# Altium footprint library Package_SON.PcbLib: 75 footprints (part 3 of 5)
Each footprint in its own frame and in the unit in brackets; x right, y up, seen from the top. Pads: shape width x height; smd on the part's side, far side on the other; paste and mask are expansions set on the pad; w line width, h text height; cw(c..) or ccw(c..) is an arc to the next point about the centre after c.
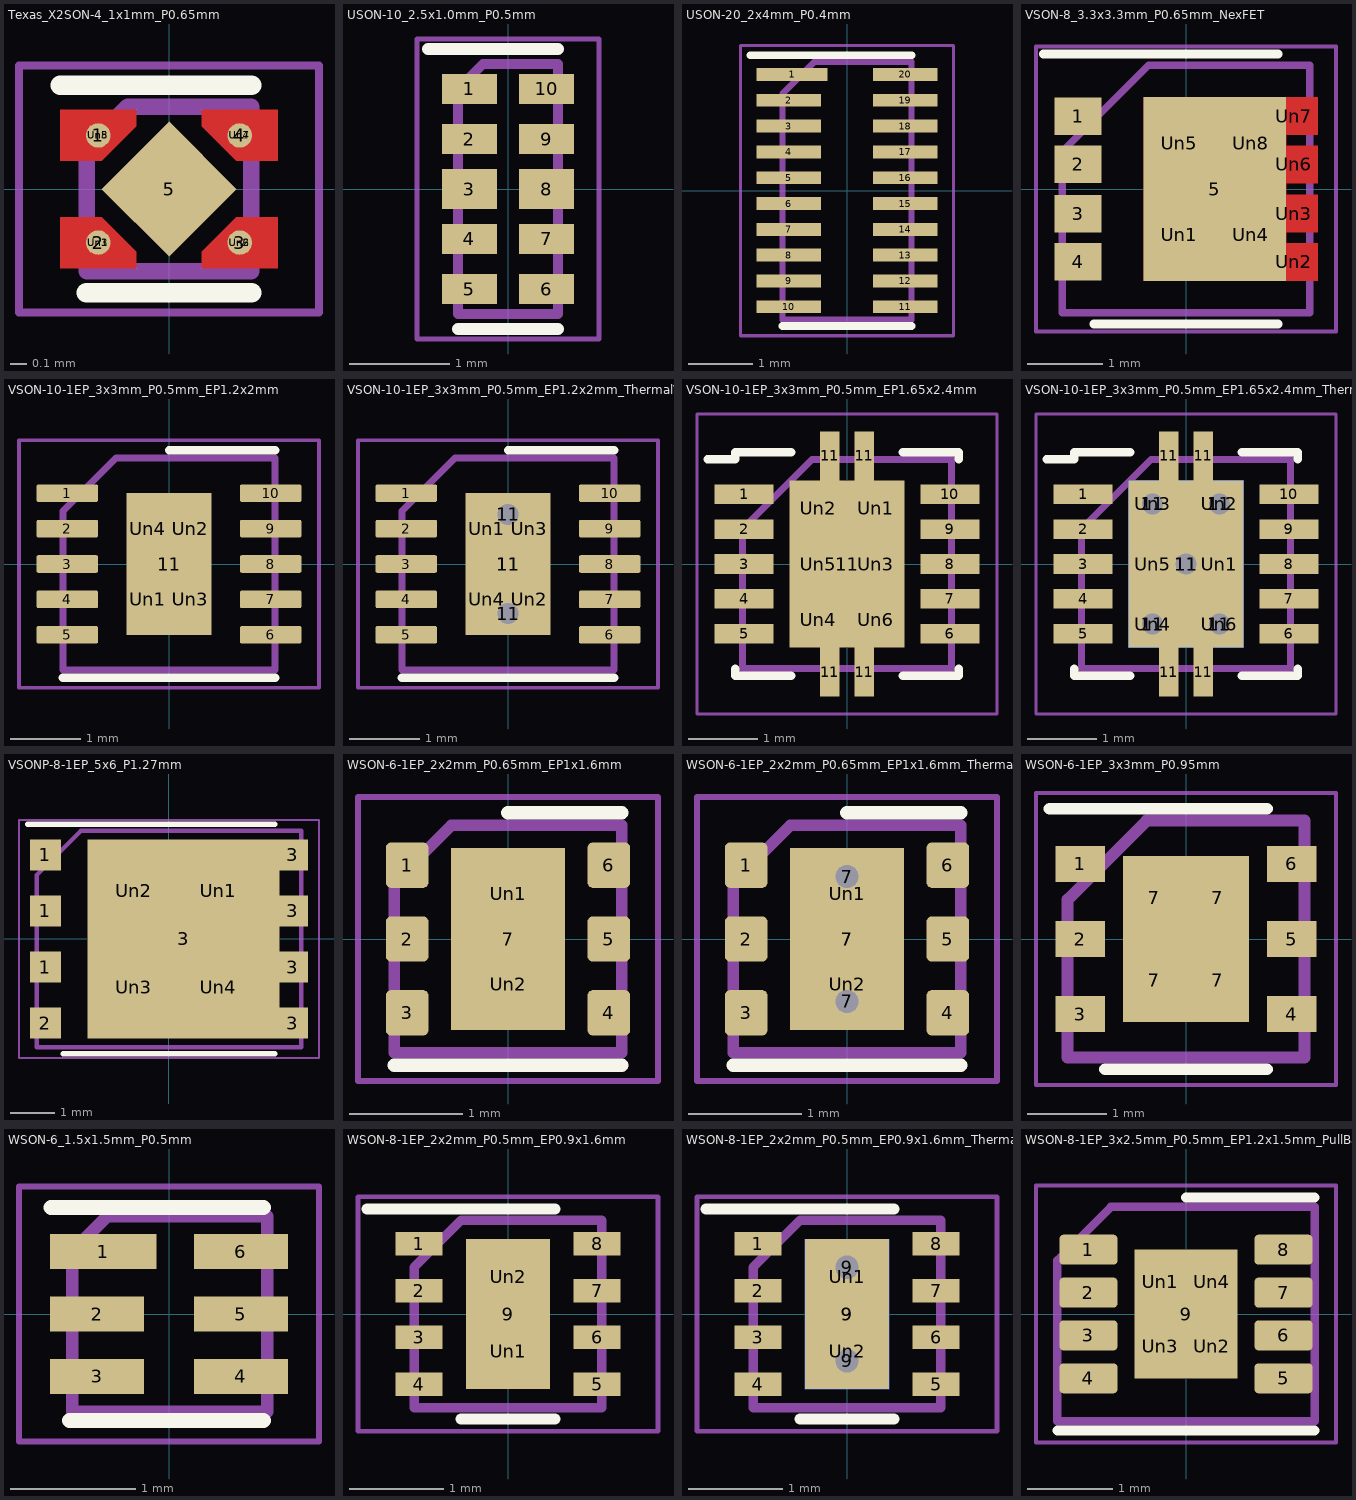
[diagram p2: the footprints below, top view; thin cyan lines are the x and y axes]

## Texas_X2SON-4_1x1mm_P0.65mm [mm]
pads (13):
  round 0.148 smd: 1(-0.43,0.325) 2(-0.43,-0.325) 3(0.43,-0.325) 4(0.43,0.325)
  rect 0.58x0.58 smd rot 45: 5(0,0)
  round 0.148 on Top Solder: Un1(-0.43,-0.325) Un2(0.43,-0.325) Un5(-0.43,0.325) Un7(0.43,0.325)
  round 0.148 on Top Paste: Un3(-0.43,-0.325) Un4(0.43,0.325) Un6(0.43,-0.325) Un8(-0.43,0.325)
F.Cu:
  region: -0.2,0.379 -0.409,0.17 -0.66,0.17 -0.66,0.48 -0.2,0.48
  region: -0.2,-0.379 -0.2,-0.48 -0.66,-0.48 -0.66,-0.17 -0.409,-0.17
  region: 0.66,-0.48 0.2,-0.48 0.2,-0.379 0.409,-0.17 0.66,-0.17
  region: 0.66,0.17 0.409,0.17 0.2,0.379 0.2,0.48 0.66,0.48
F.SilkS:
  lines w0.12: -0.66,0.63 0.5,0.63 ; -0.5,-0.63 0.5,-0.63
F.Paste:
  region: -0.25,-0.4 -0.25,-0.43 -0.65,-0.43 -0.65,-0.22 -0.43,-0.22
  region: 0.65,0.22 0.43,0.22 0.25,0.4 0.25,0.43 0.65,0.43
  region: 0.65,-0.43 0.25,-0.43 0.25,-0.4 0.43,-0.22 0.65,-0.22
  region: -0.25,0.4 -0.43,0.22 -0.65,0.22 -0.65,0.43 -0.25,0.43
F.Mask:
  region: -0.25,-0.4 -0.25,-0.43 -0.61,-0.43 -0.61,-0.22 -0.43,-0.22
  region: 0.61,-0.43 0.25,-0.43 0.25,-0.4 0.43,-0.22 0.61,-0.22
  region: -0.25,0.4 -0.43,0.22 -0.61,0.22 -0.61,0.43 -0.25,0.43
  region: 0.61,0.22 0.43,0.22 0.25,0.4 0.25,0.43 0.61,0.43
F.CrtYd:
  lines w0.05: -0.91,-0.75 0.91,-0.75 0.91,0.75 -0.91,0.75 -0.91,-0.75
F.Fab:
  lines w0.1: -0.5,-0.5 -0.5,0.25 -0.25,0.5 0.5,0.5 0.5,-0.5 -0.5,-0.5
  text "'.Designator'" at -0.819,-0.178 h0.2

## USON-10_2.5x1.0mm_P0.5mm [mm]
pads (10):
  rect 0.55x0.3 smd: 1(-0.385,1) 2(-0.385,0.5) 4(-0.385,-0.5) 5(-0.385,-1) 6(0.385,-1) 7(0.385,-0.5) 9(0.385,0.5) 10(0.385,1)
  rect 0.55x0.4 smd: 3(-0.385,0) 8(0.385,0)
F.SilkS:
  lines w0.12: -0.8,1.4 0.5,1.4 ; -0.5,-1.4 0.5,-1.4
F.CrtYd:
  lines w0.05: -0.91,-1.5 0.91,-1.5 0.91,1.5 -0.91,1.5 -0.91,-1.5
F.Fab:
  lines w0.1: -0.5,-1.25 0.5,-1.25 0.5,1.25 -0.25,1.25 -0.5,1 -0.5,-1.25
  text "'.Designator'" at 0.48,-2.243 h0.55

## USON-20_2x4mm_P0.4mm [mm]
pads (20):
  rect 1.1x0.2 smd: 1(-0.85,1.8)
  rect 1x0.2 smd: 2(-0.9,1.4) 3(-0.9,1) 4(-0.9,0.6) 5(-0.9,0.2) 6(-0.9,-0.2) 7(-0.9,-0.6) 8(-0.9,-1) 9(-0.9,-1.4) 10(-0.9,-1.8) 11(0.9,-1.8) 12(0.9,-1.4) 13(0.9,-1) 14(0.9,-0.6) 15(0.9,-0.2) 16(0.9,0.2) 17(0.9,0.6) 18(0.9,1) 19(0.9,1.4) 20(0.9,1.8)
F.SilkS:
  lines w0.12: -1.5,2.1 1,2.1 ; -1,-2.1 1,-2.1
F.CrtYd:
  lines w0.05: -1.65,-2.25 -1.65,2.25 1.65,2.25 1.65,-2.25 -1.65,-2.25
F.Fab:
  lines w0.1: -1,-2 -1,1.5 -0.5,2 1,2 1,-2 -1,-2
  text "'.Designator'" at 0.771,-3.657 h0.9

## VSON-8_3.3x3.3mm_P0.65mm_NexFET [mm]
pads (13):
  rect 0.63x0.5 smd: 1(-1.44,0.97) 2(-1.44,0.33) 3(-1.44,-0.33) 4(-1.44,-0.97)
  rect 1.9x2.45 smd: 5(0.385,0)
  rect 0.57x0.738 on Top Paste: Un1(-0.09,-0.61) Un4(0.86,-0.61) Un5(-0.09,0.61) Un8(0.86,0.61)
  rect 0.63x0.505 on Top Paste: Un2(1.44,-0.972) Un7(1.44,0.972)
  rect 0.63x0.5 on Top Paste: Un3(1.44,-0.33) Un6(1.44,0.33)
F.Cu:
  region: 1.756,0.72 1.335,0.72 1.335,0.58 1.755,0.58 1.755,0.08 1.335,0.08 1.335,-0.08 1.755,-0.08 1.755,-0.58 1.335,-0.58 1.335,-0.72 1.755,-0.72 1.755,-1.225 -0.565,-1.225 -0.565,1.225 1.756,1.225
F.SilkS:
  lines w0.12: -1.9,1.8 1.23,1.8 ; -1.23,-1.8 1.23,-1.8
F.Mask:
  region: 1.756,0.72 1.335,0.72 1.335,0.58 1.755,0.58 1.755,0.08 1.335,0.08 1.335,-0.08 1.755,-0.08 1.755,-0.58 1.335,-0.58 1.335,-0.72 1.755,-0.72 1.755,-1.225 -0.565,-1.225 -0.565,1.225 1.756,1.225
F.CrtYd:
  lines w0.05: -2,-1.9 -2,1.9 2,1.9 2,-1.9 -2,-1.9
F.Fab:
  lines w0.1: -1.65,-1.65 1.65,-1.65 1.65,1.65 -0.5,1.65 -1.65,0.5 -1.65,-1.65
  text "'.Designator'" at -2.302,-0.825 h0.7

## VSON-10-1EP_3x3mm_P0.5mm_EP1.2x2mm [mm]
pads (15):
  rrect25% 0.875x0.25 smd: 1(-1.438,1) 2(-1.438,0.5) 3(-1.438,0) 4(-1.438,-0.5) 5(-1.438,-1) 6(1.438,-1) 7(1.438,-0.5) 8(1.438,0) 9(1.438,0.5) 10(1.438,1)
  rect 1.2x2 smd: 11(0,0)
  rrect25% 0.48x0.81 on Top Paste: Un1(-0.3,-0.5) Un2(0.3,0.5) Un3(0.3,-0.5) Un4(-0.3,0.5)
F.SilkS:
  lines w0.12: -1.5,-1.61 1.5,-1.61 ; 0,1.61 1.5,1.61
F.CrtYd:
  lines w0.05: -2.12,-1.75 2.12,-1.75 2.12,1.75 -2.12,1.75 -2.12,-1.75
F.Fab:
  lines w0.1: -1.5,-1.5 1.5,-1.5 1.5,1.5 -0.75,1.5 -1.5,0.75 -1.5,-1.5
  text "'.Designator'" at -3.033,-0.628 h0.75

## VSON-10-1EP_3x3mm_P0.5mm_EP1.2x2mm_ThermalVias [mm]
pads (18):
  rrect25% 0.875x0.25 smd: 1(-1.438,1) 2(-1.438,0.5) 3(-1.438,0) 4(-1.438,-0.5) 5(-1.438,-1) 6(1.438,-1) 7(1.438,-0.5) 8(1.438,0) 9(1.438,0.5) 10(1.438,1)
  round 0.6 hole 0.3: 11(0,-0.7) 11(0,0.7)
  rect 1.2x2 smd: 11(0,0)
  rect 0.6x2 smd far side: 11(0,0)
  rrect25% 0.52x0.87 on Top Paste: Un1(-0.3,0.5) Un2(0.3,-0.5) Un3(0.3,0.5) Un4(-0.3,-0.5)
F.SilkS:
  lines w0.12: -1.5,-1.61 1.5,-1.61 ; 0,1.61 1.5,1.61
F.CrtYd:
  lines w0.05: -2.12,-1.75 -2.12,1.75 2.12,1.75 2.12,-1.75 -2.12,-1.75
F.Fab:
  lines w0.1: -1.5,-1.5 1.5,-1.5 1.5,1.5 -0.75,1.5 -1.5,0.75 -1.5,-1.5
  text "'.Designator'" at -3.033,-0.628 h0.75

## VSON-10-1EP_3x3mm_P0.5mm_EP1.65x2.4mm [mm]
pads (21):
  rect 0.85x0.28 smd: 1(-1.475,1) 2(-1.475,0.5) 3(-1.475,0) 4(-1.475,-0.5) 5(-1.475,-1) 6(1.475,-1) 7(1.475,-0.5) 8(1.475,0) 9(1.475,0.5) 10(1.475,1)
  rect 0.28x0.7 smd: 11(-0.25,-1.55) 11(-0.25,1.55) 11(0.25,-1.55) 11(0.25,1.55)
  rect 1.65x2.4 smd: 11(0,0)
  rect 0.64x0.64 on Top Paste: Un1(0.413,0.8) Un2(-0.413,0.8) Un3(0.413,0) Un4(-0.413,-0.8) Un5(-0.413,0) Un6(0.413,-0.8)
F.SilkS:
  lines w0.12: -2,1.5 -1.6,1.5 -1.6,1.6 -0.8,1.6 ; -1.6,-1.5 -1.6,-1.6 -0.8,-1.6 ; 0.8,-1.6 1.6,-1.6 1.6,-1.5 ; 0.8,1.6 1.6,1.6 1.6,1.5
F.CrtYd:
  lines w0.05: -2.15,-2.15 2.15,-2.15 2.15,2.15 -2.15,2.15 -2.15,-2.15
F.Fab:
  lines w0.1: -1.5,-1.5 -1.5,0.5 -0.5,1.5 1.5,1.5 1.5,-1.5 -1.5,-1.5
  text "'.Designator'" at -3.217,-0.652 h0.8

## VSON-10-1EP_3x3mm_P0.5mm_EP1.65x2.4mm_ThermalVias [mm]
pads (27):
  rect 0.85x0.28 smd: 1(-1.475,1) 2(-1.475,0.5) 3(-1.475,0) 4(-1.475,-0.5) 5(-1.475,-1) 6(1.475,-1) 7(1.475,-0.5) 8(1.475,0) 9(1.475,0.5) 10(1.475,1)
  round 0.6 hole 0.3: 11(-0.48,-0.86) 11(-0.48,0.86) 11(0,0) 11(0.48,-0.86) 11(0.48,0.86)
  rect 0.28x0.7 smd: 11(-0.25,-1.55) 11(-0.25,1.55) 11(0.25,-1.55) 11(0.25,1.55)
  rect 1.65x2.4 smd: 11(0,0)
  rect 1.65x2.4 smd far side: 11(0,0)
  rect 0.64x0.64 on Top Paste: Un1(0.48,0) Un2(0.48,0.86) Un3(-0.48,0.86) Un4(-0.48,-0.86) Un5(-0.48,0) Un6(0.48,-0.86)
F.SilkS:
  lines w0.12: -2,1.5 -1.6,1.5 -1.6,1.6 -0.8,1.6 ; -1.6,-1.5 -1.6,-1.6 -0.8,-1.6 ; 0.8,-1.6 1.6,-1.6 1.6,-1.5 ; 0.8,1.6 1.6,1.6 1.6,1.5
F.CrtYd:
  lines w0.05: -2.15,-2.15 -2.15,2.15 2.15,2.15 2.15,-2.15 -2.15,-2.15
F.Fab:
  lines w0.1: -1.5,-1.5 1.5,-1.5 1.5,1.5 -0.5,1.5 -1.5,0.5 -1.5,-1.5
  text "'.Designator'" at -3.217,-0.652 h0.8

## VSONP-8-1EP_5x6_P1.27mm [mm]
pads (13):
  rect 0.7x0.7 smd: 1(-2.8,-0.635) 1(-2.8,0.635) 1(-2.8,1.905) 2(-2.8,-1.905) 3(2.8,-1.905) 3(2.8,-0.635) 3(2.8,0.635) 3(2.8,1.905)
  rect 4.35x4.51 smd: 3(0.33,0)
  rect 1.585x1.57 on Top Paste: Un1(1.112,1.095) Un4(1.112,-1.095)
  rect 1.235x1.57 on Top Paste: Un2(-0.797,1.095) Un3(-0.797,-1.095)
F.SilkS:
  lines w0.12: -3.2,2.6 2.4,2.6 ; -2.4,-2.6 2.4,-2.6
F.CrtYd:
  lines w0.05: -3.4,-2.7 -3.4,2.7 3.4,2.7 3.4,-2.7 -3.4,-2.7
F.Fab:
  lines w0.1: -3,-2.45 3,-2.45 3,2.45 -2,2.45 -3,1.45 -3,-2.45
  text "'.Designator'" at -4.047,-0.84 h1

## WSON-6-1EP_2x2mm_P0.65mm_EP1x1.6mm [mm]
pads (9):
  rrect25% 0.375x0.4 smd: 1(-0.887,0.65) 2(-0.887,0) 3(-0.887,-0.65) 4(0.887,-0.65) 5(0.887,0) 6(0.887,0.65)
  rect 1x1.6 smd: 7(0,0)
  rrect25% 0.81x0.64 on Top Paste: Un1(0,0.4) Un2(0,-0.4)
F.SilkS:
  lines w0.12: -1,-1.11 1,-1.11 ; 0,1.11 1,1.11
F.CrtYd:
  lines w0.05: -1.32,-1.25 1.32,-1.25 1.32,1.25 -1.32,1.25 -1.32,-1.25
F.Fab:
  lines w0.1: -1,-1 1,-1 1,1 -0.5,1 -1,0.5 -1,-1
  text "'.Designator'" at -2.028,-0.425 h0.5

## WSON-6-1EP_2x2mm_P0.65mm_EP1x1.6mm_ThermalVias [mm]
pads (12):
  rrect25% 0.375x0.4 smd: 1(-0.887,0.65) 2(-0.887,0) 3(-0.887,-0.65) 4(0.887,-0.65) 5(0.887,0) 6(0.887,0.65)
  round 0.5 hole 0.2: 7(0,-0.55) 7(0,0.55)
  rect 0.5x1.6 smd far side: 7(0,0)
  rect 1x1.6 smd: 7(0,0)
  rrect25% 0.87x0.69 on Top Paste: Un1(0,0.4) Un2(0,-0.4)
F.SilkS:
  lines w0.12: -1,-1.11 1,-1.11 ; 0,1.11 1,1.11
F.CrtYd:
  lines w0.05: -1.32,-1.25 -1.32,1.25 1.32,1.25 1.32,-1.25 -1.32,-1.25
F.Fab:
  lines w0.1: -1,-1 -1,0.5 -0.5,1 1,1 1,-1 -1,-1
  text "'.Designator'" at -2.028,-0.425 h0.5

## WSON-6-1EP_3x3mm_P0.95mm [mm]
pads (10):
  rect 0.63x0.45 smd: 1(-1.34,0.95) 2(-1.34,0) 3(-1.34,-0.95) 4(1.34,-0.95) 5(1.34,0) 6(1.34,0.95)
  rect 0.8x1.05 smd: 7(-0.4,-0.525) 7(-0.4,0.525) 7(0.4,-0.525) 7(0.4,0.525)
F.SilkS:
  lines w0.15: -1.73,1.65 1.025,1.65 ; -1.025,-1.65 1.025,-1.65
F.CrtYd:
  lines w0.05: -1.9,-1.85 -1.9,1.85 1.9,1.85 1.9,-1.85 -1.9,-1.85
F.Fab:
  lines w0.15: -1.5,-1.5 -1.5,0.5 -0.5,1.5 1.5,1.5 1.5,-1.5 -1.5,-1.5
  text "'.Designator'" at -2.438,-0.514 h0.6

## WSON-6_1.5x1.5mm_P0.5mm [mm]
pads (6):
  rect 0.85x0.28 smd: 1(-0.525,0.5)
  rect 0.75x0.28 smd: 2(-0.575,0) 3(-0.575,-0.5) 4(0.575,-0.5) 5(0.575,0) 6(0.575,0.5)
F.SilkS:
  lines w0.12: -0.945,0.85 0.755,0.85 ; -0.795,-0.85 0.755,-0.85
F.CrtYd:
  lines w0.05: -1.2,-1.02 -1.2,1.02 1.2,1.02 1.2,-1.02 -1.2,-1.02
F.Fab:
  lines w0.1: -0.775,-0.78 0.785,-0.78 0.785,0.78 -0.495,0.78 -0.775,0.5 -0.775,-0.78
  text "'.Designator'" at -1.604,-0.326 h0.4

## WSON-8-1EP_2x2mm_P0.5mm_EP0.9x1.6mm [mm]
pads (11):
  rect 0.5x0.25 smd: 1(-0.95,0.75) 2(-0.95,0.25) 3(-0.95,-0.25) 4(-0.95,-0.75) 5(0.95,-0.75) 6(0.95,-0.25) 7(0.95,0.25) 8(0.95,0.75)
  rect 0.9x1.6 smd: 9(0,0)
  rect 0.75x0.65 on Top Paste: Un1(0,-0.4) Un2(0,0.4)
F.SilkS:
  lines w0.12: -1.5,1.12 0.5,1.12 ; -0.5,-1.12 0.5,-1.12
F.CrtYd:
  lines w0.05: -1.6,-1.25 1.6,-1.25 1.6,1.25 -1.6,1.25 -1.6,-1.25
F.Fab:
  lines w0.1: -1,-1 1,-1 1,1 -0.5,1 -1,0.5 -1,-1
  text "'.Designator'" at -2.828,-0.583 h0.7

## WSON-8-1EP_2x2mm_P0.5mm_EP0.9x1.6mm_ThermalVias [mm]
pads (14):
  rect 0.5x0.25 smd: 1(-0.95,0.75) 2(-0.95,0.25) 3(-0.95,-0.25) 4(-0.95,-0.75) 5(0.95,-0.75) 6(0.95,-0.25) 7(0.95,0.25) 8(0.95,0.75)
  round 0.6 hole 0.25: 9(0,-0.5) 9(0,0.5)
  rect 0.9x1.6 smd far side: 9(0,0)
  rect 0.9x1.6 smd: 9(0,0)
  rect 0.75x0.65 on Top Paste: Un1(0,0.4) Un2(0,-0.4)
F.SilkS:
  lines w0.12: -1.5,1.12 0.5,1.12 ; -0.5,-1.12 0.5,-1.12
F.CrtYd:
  lines w0.05: -1.6,-1.25 -1.6,1.25 1.6,1.25 1.6,-1.25 -1.6,-1.25
F.Fab:
  lines w0.1: -1,-1 -1,0.5 -0.5,1 1,1 1,-1 -1,-1
  text "'.Designator'" at -2.828,-0.583 h0.7

## WSON-8-1EP_3x2.5mm_P0.5mm_EP1.2x1.5mm_PullBack [mm]
pads (13):
  rrect25% 0.675x0.35 smd: 1(-1.138,0.75) 2(-1.138,0.25) 3(-1.138,-0.25) 4(-1.138,-0.75) 5(1.138,-0.75) 6(1.138,-0.25) 7(1.138,0.25) 8(1.138,0.75)
  rect 1.2x1.5 smd: 9(0,0)
  rrect25% 0.48x0.6 on Top Paste: Un1(-0.3,0.375) Un2(0.3,-0.375) Un3(-0.3,-0.375) Un4(0.3,0.375)
F.SilkS:
  lines w0.12: -1.5,-1.36 1.5,-1.36 ; 0,1.36 1.5,1.36
F.CrtYd:
  lines w0.05: -1.75,-1.5 1.75,-1.5 1.75,1.5 -1.75,1.5 -1.75,-1.5
F.Fab:
  lines w0.1: -1.5,-1.25 -1.5,0.625 -0.875,1.25 1.5,1.25 1.5,-1.25 -1.5,-1.25
  text "'.Designator'" at -3.033,-0.628 h0.75